# Altium footprint library Mounting_Wuerth.PcbLib: 191 footprints (part 7 of 12)
Each footprint in its own frame and in the unit in brackets; x right, y up, seen from the top. Pads: shape width x height; smd on the part's side, far side on the other; paste and mask are expansions set on the pad; w line width, h text height; cw(c..) or ccw(c..) is an arc to the next point about the centre after c.
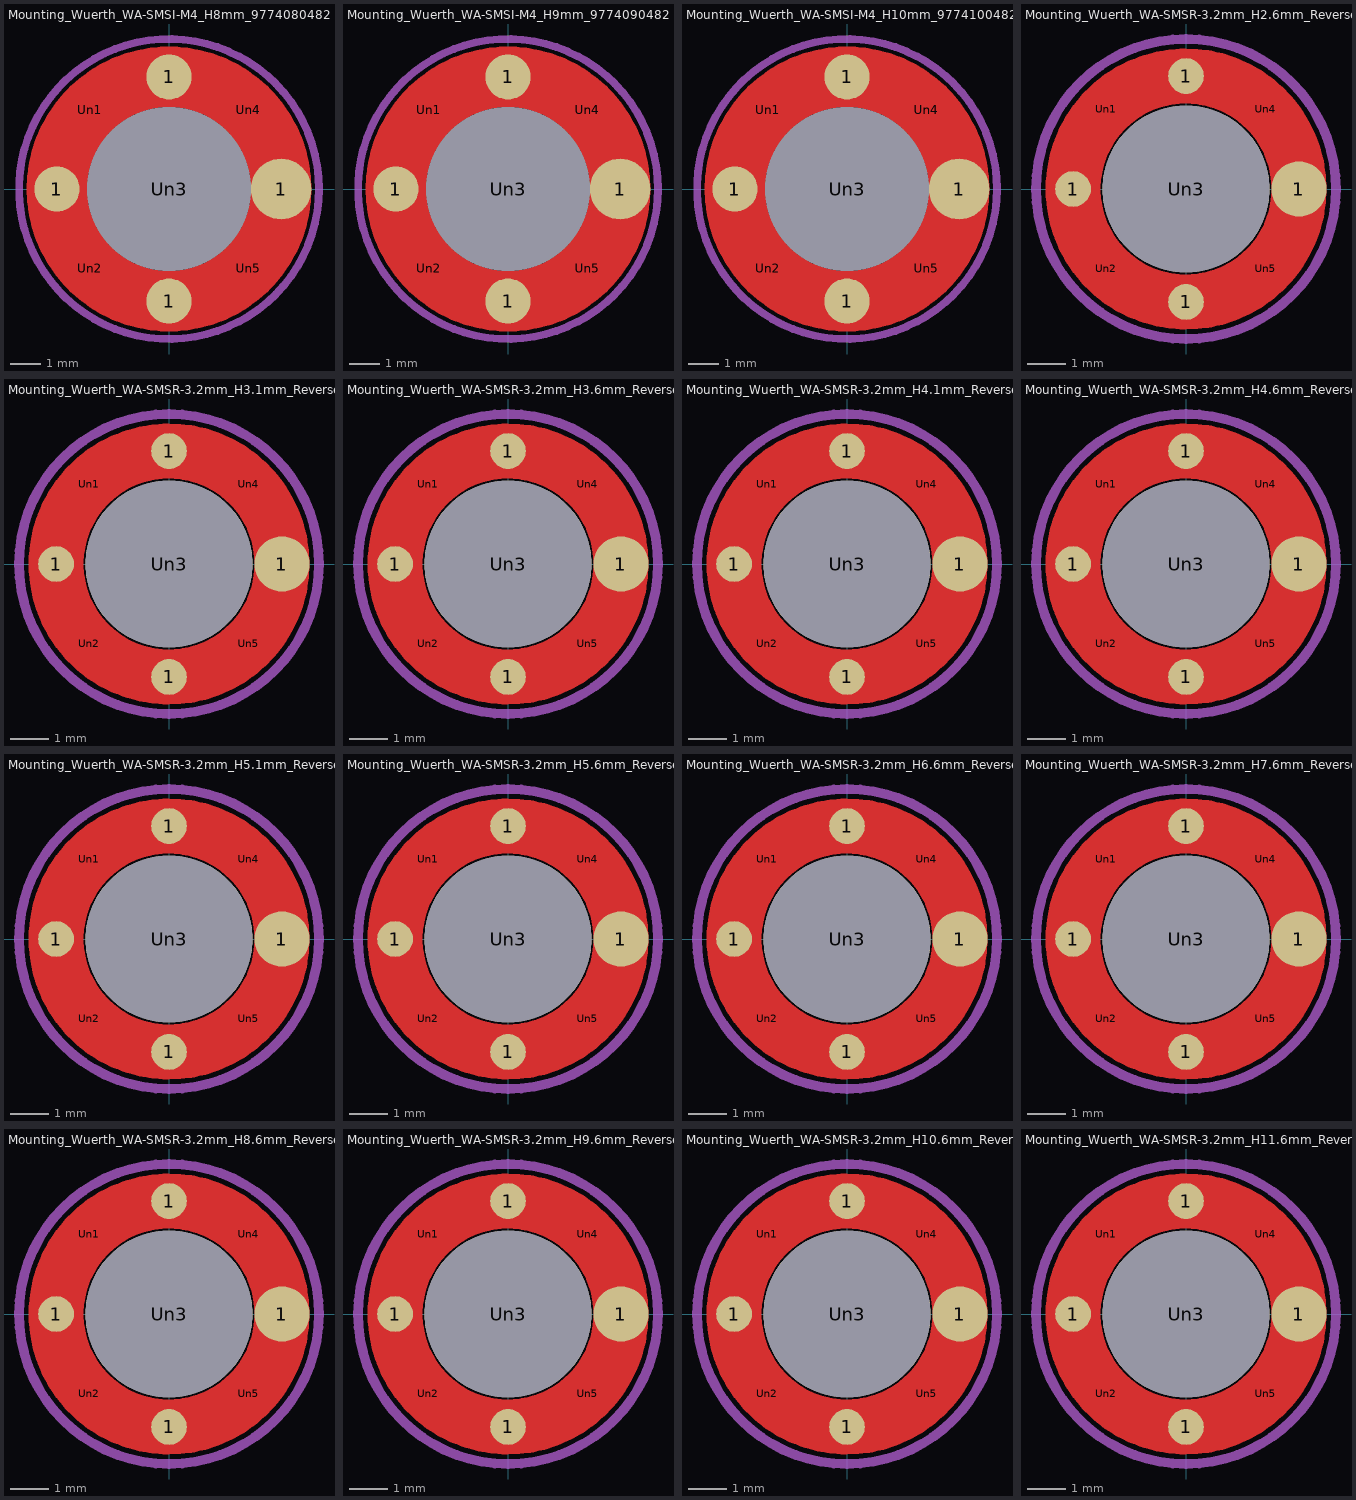
[diagram p6: the footprints below, top view; thin cyan lines are the x and y axes]

## Mounting_Wuerth_WA-SMSI-M4_H8mm_9774080482 [mm]
pads (9):
  round 1.492 smd: 1(-3.7,0) 1(0,-3.7) 1(0,3.7)
  round 2 smd: 1(3.7,0)
  round 0.947 on Top Paste: Un1(-2.607,2.607) Un2(-2.607,-2.607) Un4(2.607,2.607) Un5(2.607,-2.607)
  round 5.4 hole 5.4: Un3(0,0)
F.Cu:
  circle w2: c0,0 r3.7
F.Paste:
  lines w0.2: -4.507,-0.5 -2.796,-0.5 ; -4.507,0.5 -2.796,0.5 ; -0.5,-4.507 -0.5,-2.796 ; -0.5,2.796 -0.5,4.507 ; 0.5,-4.507 0.5,-2.796 ; 0.5,2.796 0.5,4.507 ; 2.796,-0.5 4.507,-0.5 ; 2.796,0.5 4.507,0.5
F.Mask:
  circle w2: c0,0 r3.7
Top Assembly:
  circle w0.254: c0,0 r4.1
  text "'.Designator'" at -4.047,-0.84 h1
Top Courtyard:
  circle w0.254: c0,0 r4.95
Top Designator:
  text ".Designator" at -7.618,-0.508 h1.52

## Mounting_Wuerth_WA-SMSI-M4_H9mm_9774090482 [mm]
pads (9):
  round 1.492 smd: 1(-3.7,0) 1(0,-3.7) 1(0,3.7)
  round 2 smd: 1(3.7,0)
  round 0.947 on Top Paste: Un1(-2.607,2.607) Un2(-2.607,-2.607) Un4(2.607,2.607) Un5(2.607,-2.607)
  round 5.4 hole 5.4: Un3(0,0)
F.Cu:
  circle w2: c0,0 r3.7
F.Paste:
  lines w0.2: -4.507,-0.5 -2.796,-0.5 ; -4.507,0.5 -2.796,0.5 ; -0.5,-4.507 -0.5,-2.796 ; -0.5,2.796 -0.5,4.507 ; 0.5,-4.507 0.5,-2.796 ; 0.5,2.796 0.5,4.507 ; 2.796,-0.5 4.507,-0.5 ; 2.796,0.5 4.507,0.5
F.Mask:
  circle w2: c0,0 r3.7
Top Assembly:
  circle w0.254: c0,0 r4.1
  text "'.Designator'" at -4.047,-0.84 h1
Top Courtyard:
  circle w0.254: c0,0 r4.95
Top Designator:
  text ".Designator" at -7.618,-0.508 h1.52

## Mounting_Wuerth_WA-SMSI-M4_H10mm_9774100482 [mm]
pads (9):
  round 1.492 smd: 1(-3.7,0) 1(0,-3.7) 1(0,3.7)
  round 2 smd: 1(3.7,0)
  round 0.947 on Top Paste: Un1(-2.607,2.607) Un2(-2.607,-2.607) Un4(2.607,2.607) Un5(2.607,-2.607)
  round 5.4 hole 5.4: Un3(0,0)
F.Cu:
  circle w2: c0,0 r3.7
F.Paste:
  lines w0.2: -4.507,-0.5 -2.796,-0.5 ; -4.507,0.5 -2.796,0.5 ; -0.5,-4.507 -0.5,-2.796 ; -0.5,2.796 -0.5,4.507 ; 0.5,-4.507 0.5,-2.796 ; 0.5,2.796 0.5,4.507 ; 2.796,-0.5 4.507,-0.5 ; 2.796,0.5 4.507,0.5
F.Mask:
  circle w2: c0,0 r3.7
Top Assembly:
  circle w0.254: c0,0 r4.1
  text "'.Designator'" at -4.047,-0.84 h1
Top Courtyard:
  circle w0.254: c0,0 r4.95
Top Designator:
  text ".Designator" at -7.618,-0.508 h1.52

## Mounting_Wuerth_WA-SMSR-3.2mm_H2.6mm_ReverseMount_9775026960 [mm]
pads (9):
  round 0.942 smd: 1(-2.975,0) 1(0,-2.975) 1(0,2.975)
  round 1.45 smd: 1(2.975,0)
  round 0.673 on Top Paste: Un1(-2.095,2.095) Un2(-2.095,-2.095) Un4(2.095,2.095) Un5(2.095,-2.095)
  round 4.4 hole 4.4: Un3(0,0)
F.Cu:
  circle w1.45: c0,0 r2.975
F.Paste:
  lines w0.2: -3.499,-0.5 -2.337,-0.5 ; -3.499,0.5 -2.337,0.5 ; -0.5,-3.499 -0.5,-2.337 ; -0.5,2.337 -0.5,3.499 ; 0.5,-3.499 0.5,-2.337 ; 0.5,2.337 0.5,3.499 ; 2.337,-0.5 3.499,-0.5 ; 2.337,0.5 3.499,0.5
F.Mask:
  circle w1.45: c0,0 r2.975
Top Assembly:
  circle w0.254: c0,0 r3
  text "'.Designator'" at -4.047,-0.84 h1
Top Courtyard:
  circle w0.254: c0,0 r3.95
Top Designator:
  text ".Designator" at -7.677,-0.508 h1.52
3D body "Mounting_Wuerth_WA-SMSR-3.2mm_H2.6mm_ReverseMount_9775026960.step": height 1, standoff -2.6, extent -3,-3 3,3

## Mounting_Wuerth_WA-SMSR-3.2mm_H3.1mm_ReverseMount_9775031960 [mm]
pads (9):
  round 0.942 smd: 1(-2.975,0) 1(0,-2.975) 1(0,2.975)
  round 1.45 smd: 1(2.975,0)
  round 0.673 on Top Paste: Un1(-2.095,2.095) Un2(-2.095,-2.095) Un4(2.095,2.095) Un5(2.095,-2.095)
  round 4.4 hole 4.4: Un3(0,0)
F.Cu:
  circle w1.45: c0,0 r2.975
F.Paste:
  lines w0.2: -3.499,-0.5 -2.337,-0.5 ; -3.499,0.5 -2.337,0.5 ; -0.5,-3.499 -0.5,-2.337 ; -0.5,2.337 -0.5,3.499 ; 0.5,-3.499 0.5,-2.337 ; 0.5,2.337 0.5,3.499 ; 2.337,-0.5 3.499,-0.5 ; 2.337,0.5 3.499,0.5
F.Mask:
  circle w1.45: c0,0 r2.975
Top Assembly:
  circle w0.254: c0,0 r3
  text "'.Designator'" at -4.047,-0.84 h1
Top Courtyard:
  circle w0.254: c0,0 r3.95
Top Designator:
  text ".Designator" at -7.677,-0.508 h1.52
3D body "Mounting_Wuerth_WA-SMSR-3.2mm_H3.1mm_ReverseMount_9775031960.step": height 1, standoff -3.1, extent -3,-3 3,3

## Mounting_Wuerth_WA-SMSR-3.2mm_H3.6mm_ReverseMount_9775036960 [mm]
pads (9):
  round 0.942 smd: 1(-2.975,0) 1(0,-2.975) 1(0,2.975)
  round 1.45 smd: 1(2.975,0)
  round 0.673 on Top Paste: Un1(-2.095,2.095) Un2(-2.095,-2.095) Un4(2.095,2.095) Un5(2.095,-2.095)
  round 4.4 hole 4.4: Un3(0,0)
F.Cu:
  circle w1.45: c0,0 r2.975
F.Paste:
  lines w0.2: -3.499,-0.5 -2.337,-0.5 ; -3.499,0.5 -2.337,0.5 ; -0.5,-3.499 -0.5,-2.337 ; -0.5,2.337 -0.5,3.499 ; 0.5,-3.499 0.5,-2.337 ; 0.5,2.337 0.5,3.499 ; 2.337,-0.5 3.499,-0.5 ; 2.337,0.5 3.499,0.5
F.Mask:
  circle w1.45: c0,0 r2.975
Top Assembly:
  circle w0.254: c0,0 r3
  text "'.Designator'" at -4.047,-0.84 h1
Top Courtyard:
  circle w0.254: c0,0 r3.95
Top Designator:
  text ".Designator" at -7.677,-0.508 h1.52
3D body "Mounting_Wuerth_WA-SMSR-3.2mm_H3.6mm_ReverseMount_9775036960.step": height 1, standoff -3.6, extent -3,-3 3,3

## Mounting_Wuerth_WA-SMSR-3.2mm_H4.1mm_ReverseMount_9775041960 [mm]
pads (9):
  round 0.942 smd: 1(-2.975,0) 1(0,-2.975) 1(0,2.975)
  round 1.45 smd: 1(2.975,0)
  round 0.673 on Top Paste: Un1(-2.095,2.095) Un2(-2.095,-2.095) Un4(2.095,2.095) Un5(2.095,-2.095)
  round 4.4 hole 4.4: Un3(0,0)
F.Cu:
  circle w1.45: c0,0 r2.975
F.Paste:
  lines w0.2: -3.499,-0.5 -2.337,-0.5 ; -3.499,0.5 -2.337,0.5 ; -0.5,-3.499 -0.5,-2.337 ; -0.5,2.337 -0.5,3.499 ; 0.5,-3.499 0.5,-2.337 ; 0.5,2.337 0.5,3.499 ; 2.337,-0.5 3.499,-0.5 ; 2.337,0.5 3.499,0.5
F.Mask:
  circle w1.45: c0,0 r2.975
Top Assembly:
  circle w0.254: c0,0 r3
  text "'.Designator'" at -4.047,-0.84 h1
Top Courtyard:
  circle w0.254: c0,0 r3.95
Top Designator:
  text ".Designator" at -7.677,-0.508 h1.52
3D body "Mounting_Wuerth_WA-SMSR-3.2mm_H4.1mm_ReverseMount_9775041960.step": height 1, standoff -4.1, extent -3,-3 3,3

## Mounting_Wuerth_WA-SMSR-3.2mm_H4.6mm_ReverseMount_9775046960 [mm]
pads (9):
  round 0.942 smd: 1(-2.975,0) 1(0,-2.975) 1(0,2.975)
  round 1.45 smd: 1(2.975,0)
  round 0.673 on Top Paste: Un1(-2.095,2.095) Un2(-2.095,-2.095) Un4(2.095,2.095) Un5(2.095,-2.095)
  round 4.4 hole 4.4: Un3(0,0)
F.Cu:
  circle w1.45: c0,0 r2.975
F.Paste:
  lines w0.2: -3.499,-0.5 -2.337,-0.5 ; -3.499,0.5 -2.337,0.5 ; -0.5,-3.499 -0.5,-2.337 ; -0.5,2.337 -0.5,3.499 ; 0.5,-3.499 0.5,-2.337 ; 0.5,2.337 0.5,3.499 ; 2.337,-0.5 3.499,-0.5 ; 2.337,0.5 3.499,0.5
F.Mask:
  circle w1.45: c0,0 r2.975
Top Assembly:
  circle w0.254: c0,0 r3
  text "'.Designator'" at -4.047,-0.84 h1
Top Courtyard:
  circle w0.254: c0,0 r3.95
Top Designator:
  text ".Designator" at -7.677,-0.508 h1.52
3D body "Mounting_Wuerth_WA-SMSR-3.2mm_H4.6mm_ReverseMount_9775046960.step": height 1, standoff -4.6, extent -3,-3 3,3

## Mounting_Wuerth_WA-SMSR-3.2mm_H5.1mm_ReverseMount_9775051960 [mm]
pads (9):
  round 0.942 smd: 1(-2.975,0) 1(0,-2.975) 1(0,2.975)
  round 1.45 smd: 1(2.975,0)
  round 0.673 on Top Paste: Un1(-2.095,2.095) Un2(-2.095,-2.095) Un4(2.095,2.095) Un5(2.095,-2.095)
  round 4.4 hole 4.4: Un3(0,0)
F.Cu:
  circle w1.45: c0,0 r2.975
F.Paste:
  lines w0.2: -3.499,-0.5 -2.337,-0.5 ; -3.499,0.5 -2.337,0.5 ; -0.5,-3.499 -0.5,-2.337 ; -0.5,2.337 -0.5,3.499 ; 0.5,-3.499 0.5,-2.337 ; 0.5,2.337 0.5,3.499 ; 2.337,-0.5 3.499,-0.5 ; 2.337,0.5 3.499,0.5
F.Mask:
  circle w1.45: c0,0 r2.975
Top Assembly:
  circle w0.254: c0,0 r3
  text "'.Designator'" at -4.047,-0.84 h1
Top Courtyard:
  circle w0.254: c0,0 r3.95
Top Designator:
  text ".Designator" at -7.677,-0.508 h1.52
3D body "Mounting_Wuerth_WA-SMSR-3.2mm_H5.1mm_ReverseMount_9775051960.step": height 1, standoff -5.1, extent -3,-3 3,3

## Mounting_Wuerth_WA-SMSR-3.2mm_H5.6mm_ReverseMount_9775056960 [mm]
pads (9):
  round 0.942 smd: 1(-2.975,0) 1(0,-2.975) 1(0,2.975)
  round 1.45 smd: 1(2.975,0)
  round 0.673 on Top Paste: Un1(-2.095,2.095) Un2(-2.095,-2.095) Un4(2.095,2.095) Un5(2.095,-2.095)
  round 4.4 hole 4.4: Un3(0,0)
F.Cu:
  circle w1.45: c0,0 r2.975
F.Paste:
  lines w0.2: -3.499,-0.5 -2.337,-0.5 ; -3.499,0.5 -2.337,0.5 ; -0.5,-3.499 -0.5,-2.337 ; -0.5,2.337 -0.5,3.499 ; 0.5,-3.499 0.5,-2.337 ; 0.5,2.337 0.5,3.499 ; 2.337,-0.5 3.499,-0.5 ; 2.337,0.5 3.499,0.5
F.Mask:
  circle w1.45: c0,0 r2.975
Top Assembly:
  circle w0.254: c0,0 r3
  text "'.Designator'" at -4.047,-0.84 h1
Top Courtyard:
  circle w0.254: c0,0 r3.95
Top Designator:
  text ".Designator" at -7.677,-0.508 h1.52
3D body "Mounting_Wuerth_WA-SMSR-3.2mm_H5.6mm_ReverseMount_9775056960.step": height 1, standoff -5.6, extent -3,-3 3,3

## Mounting_Wuerth_WA-SMSR-3.2mm_H6.6mm_ReverseMount_9775066960 [mm]
pads (9):
  round 0.942 smd: 1(-2.975,0) 1(0,-2.975) 1(0,2.975)
  round 1.45 smd: 1(2.975,0)
  round 0.673 on Top Paste: Un1(-2.095,2.095) Un2(-2.095,-2.095) Un4(2.095,2.095) Un5(2.095,-2.095)
  round 4.4 hole 4.4: Un3(0,0)
F.Cu:
  circle w1.45: c0,0 r2.975
F.Paste:
  lines w0.2: -3.499,-0.5 -2.337,-0.5 ; -3.499,0.5 -2.337,0.5 ; -0.5,-3.499 -0.5,-2.337 ; -0.5,2.337 -0.5,3.499 ; 0.5,-3.499 0.5,-2.337 ; 0.5,2.337 0.5,3.499 ; 2.337,-0.5 3.499,-0.5 ; 2.337,0.5 3.499,0.5
F.Mask:
  circle w1.45: c0,0 r2.975
Top Assembly:
  circle w0.254: c0,0 r3
  text "'.Designator'" at -4.047,-0.84 h1
Top Courtyard:
  circle w0.254: c0,0 r3.95
Top Designator:
  text ".Designator" at -7.677,-0.508 h1.52
3D body "Mounting_Wuerth_WA-SMSR-3.2mm_H6.6mm_ReverseMount_9775066960.step": height 1, standoff -6.6, extent -3,-3 3,3

## Mounting_Wuerth_WA-SMSR-3.2mm_H7.6mm_ReverseMount_9775076960 [mm]
pads (9):
  round 0.942 smd: 1(-2.975,0) 1(0,-2.975) 1(0,2.975)
  round 1.45 smd: 1(2.975,0)
  round 0.673 on Top Paste: Un1(-2.095,2.095) Un2(-2.095,-2.095) Un4(2.095,2.095) Un5(2.095,-2.095)
  round 4.4 hole 4.4: Un3(0,0)
F.Cu:
  circle w1.45: c0,0 r2.975
F.Paste:
  lines w0.2: -3.499,-0.5 -2.337,-0.5 ; -3.499,0.5 -2.337,0.5 ; -0.5,-3.499 -0.5,-2.337 ; -0.5,2.337 -0.5,3.499 ; 0.5,-3.499 0.5,-2.337 ; 0.5,2.337 0.5,3.499 ; 2.337,-0.5 3.499,-0.5 ; 2.337,0.5 3.499,0.5
F.Mask:
  circle w1.45: c0,0 r2.975
Top Assembly:
  circle w0.254: c0,0 r3
  text "'.Designator'" at -4.047,-0.84 h1
Top Courtyard:
  circle w0.254: c0,0 r3.95
Top Designator:
  text ".Designator" at -7.677,-0.508 h1.52
3D body "Mounting_Wuerth_WA-SMSR-3.2mm_H7.6mm_ReverseMount_9775076960.step": height 1, standoff -7.6, extent -3,-3 3,3

## Mounting_Wuerth_WA-SMSR-3.2mm_H8.6mm_ReverseMount_9775086960 [mm]
pads (9):
  round 0.942 smd: 1(-2.975,0) 1(0,-2.975) 1(0,2.975)
  round 1.45 smd: 1(2.975,0)
  round 0.673 on Top Paste: Un1(-2.095,2.095) Un2(-2.095,-2.095) Un4(2.095,2.095) Un5(2.095,-2.095)
  round 4.4 hole 4.4: Un3(0,0)
F.Cu:
  circle w1.45: c0,0 r2.975
F.Paste:
  lines w0.2: -3.499,-0.5 -2.337,-0.5 ; -3.499,0.5 -2.337,0.5 ; -0.5,-3.499 -0.5,-2.337 ; -0.5,2.337 -0.5,3.499 ; 0.5,-3.499 0.5,-2.337 ; 0.5,2.337 0.5,3.499 ; 2.337,-0.5 3.499,-0.5 ; 2.337,0.5 3.499,0.5
F.Mask:
  circle w1.45: c0,0 r2.975
Top Assembly:
  circle w0.254: c0,0 r3
  text "'.Designator'" at -4.047,-0.84 h1
Top Courtyard:
  circle w0.254: c0,0 r3.95
Top Designator:
  text ".Designator" at -7.677,-0.508 h1.52
3D body "Mounting_Wuerth_WA-SMSR-3.2mm_H8.6mm_ReverseMount_9775086960.step": height 1, standoff -8.6, extent -3,-3 3,3

## Mounting_Wuerth_WA-SMSR-3.2mm_H9.6mm_ReverseMount_9775096960 [mm]
pads (9):
  round 0.942 smd: 1(-2.975,0) 1(0,-2.975) 1(0,2.975)
  round 1.45 smd: 1(2.975,0)
  round 0.673 on Top Paste: Un1(-2.095,2.095) Un2(-2.095,-2.095) Un4(2.095,2.095) Un5(2.095,-2.095)
  round 4.4 hole 4.4: Un3(0,0)
F.Cu:
  circle w1.45: c0,0 r2.975
F.Paste:
  lines w0.2: -3.499,-0.5 -2.337,-0.5 ; -3.499,0.5 -2.337,0.5 ; -0.5,-3.499 -0.5,-2.337 ; -0.5,2.337 -0.5,3.499 ; 0.5,-3.499 0.5,-2.337 ; 0.5,2.337 0.5,3.499 ; 2.337,-0.5 3.499,-0.5 ; 2.337,0.5 3.499,0.5
F.Mask:
  circle w1.45: c0,0 r2.975
Top Assembly:
  circle w0.254: c0,0 r3
  text "'.Designator'" at -4.047,-0.84 h1
Top Courtyard:
  circle w0.254: c0,0 r3.95
Top Designator:
  text ".Designator" at -7.677,-0.508 h1.52
3D body "Mounting_Wuerth_WA-SMSR-3.2mm_H9.6mm_ReverseMount_9775096960.step": height 1, standoff -9.6, extent -3,-3 3,3

## Mounting_Wuerth_WA-SMSR-3.2mm_H10.6mm_ReverseMount_9775106960 [mm]
pads (9):
  round 0.942 smd: 1(-2.975,0) 1(0,-2.975) 1(0,2.975)
  round 1.45 smd: 1(2.975,0)
  round 0.673 on Top Paste: Un1(-2.095,2.095) Un2(-2.095,-2.095) Un4(2.095,2.095) Un5(2.095,-2.095)
  round 4.4 hole 4.4: Un3(0,0)
F.Cu:
  circle w1.45: c0,0 r2.975
F.Paste:
  lines w0.2: -3.499,-0.5 -2.337,-0.5 ; -3.499,0.5 -2.337,0.5 ; -0.5,-3.499 -0.5,-2.337 ; -0.5,2.337 -0.5,3.499 ; 0.5,-3.499 0.5,-2.337 ; 0.5,2.337 0.5,3.499 ; 2.337,-0.5 3.499,-0.5 ; 2.337,0.5 3.499,0.5
F.Mask:
  circle w1.45: c0,0 r2.975
Top Assembly:
  circle w0.254: c0,0 r3
  text "'.Designator'" at -4.047,-0.84 h1
Top Courtyard:
  circle w0.254: c0,0 r3.95
Top Designator:
  text ".Designator" at -7.677,-0.508 h1.52
3D body "Mounting_Wuerth_WA-SMSR-3.2mm_H10.6mm_ReverseMount_9775106960.step": height 1, standoff -10.6, extent -3,-3 3,3

## Mounting_Wuerth_WA-SMSR-3.2mm_H11.6mm_ReverseMount_9775116960 [mm]
pads (9):
  round 0.942 smd: 1(-2.975,0) 1(0,-2.975) 1(0,2.975)
  round 1.45 smd: 1(2.975,0)
  round 0.673 on Top Paste: Un1(-2.095,2.095) Un2(-2.095,-2.095) Un4(2.095,2.095) Un5(2.095,-2.095)
  round 4.4 hole 4.4: Un3(0,0)
F.Cu:
  circle w1.45: c0,0 r2.975
F.Paste:
  lines w0.2: -3.499,-0.5 -2.337,-0.5 ; -3.499,0.5 -2.337,0.5 ; -0.5,-3.499 -0.5,-2.337 ; -0.5,2.337 -0.5,3.499 ; 0.5,-3.499 0.5,-2.337 ; 0.5,2.337 0.5,3.499 ; 2.337,-0.5 3.499,-0.5 ; 2.337,0.5 3.499,0.5
F.Mask:
  circle w1.45: c0,0 r2.975
Top Assembly:
  circle w0.254: c0,0 r3
  text "'.Designator'" at -4.047,-0.84 h1
Top Courtyard:
  circle w0.254: c0,0 r3.95
Top Designator:
  text ".Designator" at -7.677,-0.508 h1.52
3D body "Mounting_Wuerth_WA-SMSR-3.2mm_H11.6mm_ReverseMount_9775116960.step": height 1, standoff -11.6, extent -3,-3 3,3